# Altium schematic symbol library BMA253.SchLib: 1 symbol
Pins are listed as number, name and electrical type; pins without a type are passive.

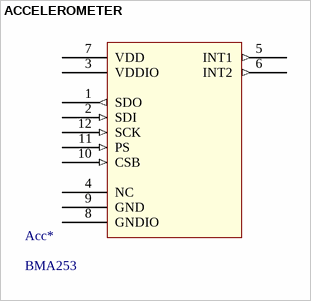
[diagram p0: symbol ACCELEROMETER]

## ACCELEROMETER
designator Acc*, comment BMA253
accelerometer
footprint BMA253
pins: 1 SDO (out), 2 SDI (in), 3 VDDIO, 4 NC, 5 INT1 (out), 6 INT2 (out), 7 VDD, 8 GNDIO, 9 GND, 10 CSB (in), 11 PS (in), 12 SCK (in)